# EAGLE library part MAX5048(FET_DRIVER) (library QuantumOptics)
MAX5048, Fast FET Driver, Maxim (reluctantly), 7.6A sink, 1.3A source, 12nS propogation delay, SOT23-6. http://pdfserv.maxim-ic.com/en/ds/MAX5048.pdf
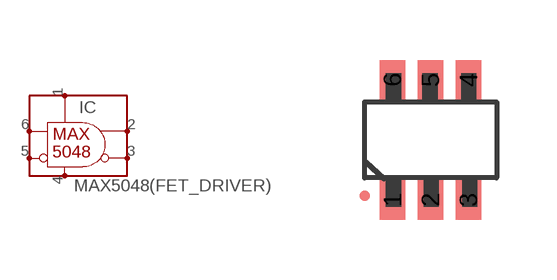
[diagram p58: symbol with the pads of SOT23-6; footprint SOT23-6]

Designator prefix IC

## MAX5048(FET_DRIVER)  [SOT23-6]
1  VDD
2  Q+
3  Q-
4  COM
5  IN-
6  IN+

## Footprint SOT23-6 (pad centres in mm)
SOT-23 6-pin, on wonderful 0.95mm (~0.037") pad-pad spacing.
smd 0.635 x 0.991: 1 -0.95,-0.099; 2 0,-0.099; 3 0.95,-0.099; 4 0.95,2.901; 5 0,2.901; 6 -0.95,2.901